# Altium integrated library IDC-10.IntLib: 1 symbol
Pins are listed as number, name and electrical type; pins without a type are passive.

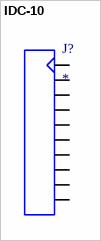
[diagram p0: symbol IDC-10]

## IDC-10
designator J?
Specialized Cables Wire UL2651 28AWG L=600 10mm With Bracket DB-9pin male to IDC 10P(2.54mm); MF: Infineon Technologies; MP: IDC-10; Price: None; Check_prices: https://www.snapeda.com/parts/IDC-10/Infineon%20Technologies/view-part/2751288/?ref=eda; Package: Die Infineon Technologies; Value: *; SnapEDA_Link: https://www.snapeda.com/parts/IDC-10/Infineon%20Technologies/view-part/2751288/?ref=snap; Availability: Not in stock
footprint IDC-10-2.54MM
pins: 1, 2, 3, 4, 5, 6, 7, 8, 9, 10